# EAGLE library part SD-CARDCONN (library adam - mechanical)
SD Card Connector
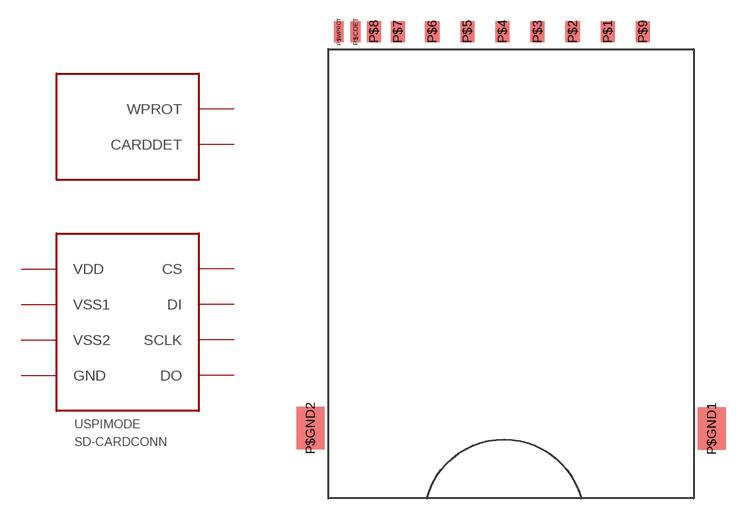
[diagram p2: symbol with the pads of SD-CARDCONN-3M; footprint SD-CARDCONN-3M]

Designator prefix -; gates MISC=SD-CARDCONN-MISC SPIMODE=SD-CARDCONN-SPIMODE

## SD-CARDCONN  [SD-CARDCONN-3M]
P$1  SPIMODE:CS  in
P$2  SPIMODE:DI  in
P$3  SPIMODE:VSS1  sup
P$4  SPIMODE:VDD  sup
P$5  SPIMODE:SCLK  in
P$6  SPIMODE:VSS2  sup
P$7  SPIMODE:DO  out
P$CDET  MISC:CARDDET  in
P$GND1  SPIMODE:GND  sup
P$WPROT  MISC:WPROT  in

## Footprint SD-CARDCONN-3M (pad centres in mm)
smd 1 x 1.5: P$1 6.89,3.25; P$2 4.39,3.25; P$3 1.89,3.25; P$4 -0.61,3.25; P$5 -3.11,3.25; P$6 -5.61,3.25; P$7 -8.06,3.25; P$8 -9.76,3.25; P$9 9.39,3.25
smd 0.7 x 1.5: P$CDET -11.06,3.25; P$WPROT -12.26,3.25
smd 2 x 3: P$GND1 14.29,-25.03; P$GND2 -14.28,-24.99